# Altium footprint library JST B7B-PH-K.PcbLib: 1 footprints
Each footprint in its own frame and in the unit in brackets; x right, y up, seen from the top. Pads: shape width x height; smd on the part's side, far side on the other; paste and mask are expansions set on the pad; w line width, h text height; cw(c..) or ccw(c..) is an arc to the next point about the centre after c.
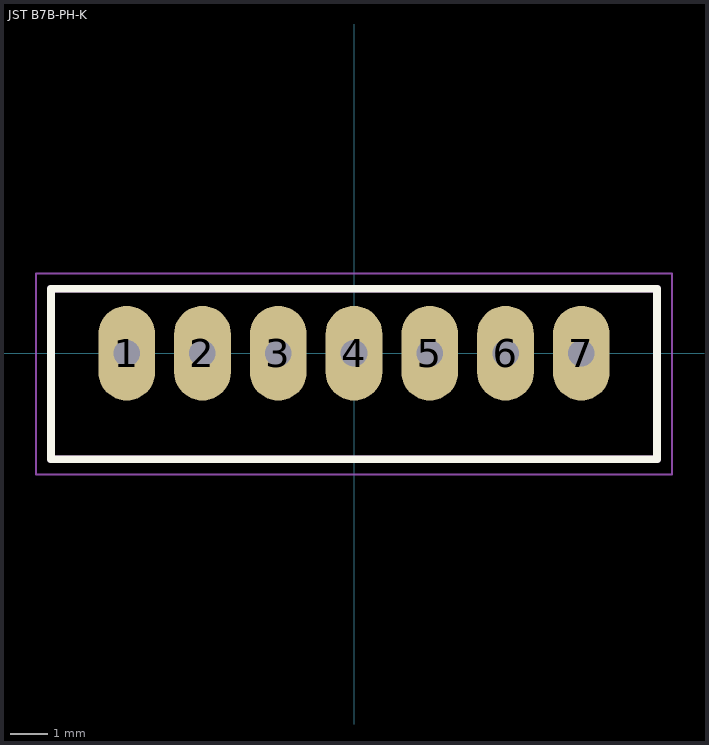
[diagram p0: the footprint, top view; thin cyan lines are the x and y axes]

## JST B7B-PH-K [mm]
height 6
pads (7):
  oval 1.5x2.5 hole 0.7: 1(-6,0) 2(-4,0) 3(-2,0) 4(0,0) 5(2,0) 6(4,0) 7(6,0)
Top Overlay:
  lines w0.2: -8,-2.8 8,-2.8 8,1.7 -8,1.7 -8,-2.8
Top Assembly:
  lines w0.1: -8,-2.8 -8,1.7 8,1.7 8,-2.8 -8,-2.8
Top Courtyard:
  lines w0.05: -8.4,-3.2 8.4,-3.2 8.4,2.1 -8.4,2.1 -8.4,-3.2
Top Designator:
  text ".Designator" at -7.498,-0.5 h1.5
Bottom Courtyard:
  lines w0.2: -8,-2.8 8,-2.8 8,1.7 -8,1.7 -8,-2.8
3D body "JST B7B-PH-K-S.STEP": height 6, standoff -3.4, extent -7.95,-2.8 7.95,1.7